# EAGLE library part RPI_MOTOR_SHEILD (library CMPE-460-NXPCUP)
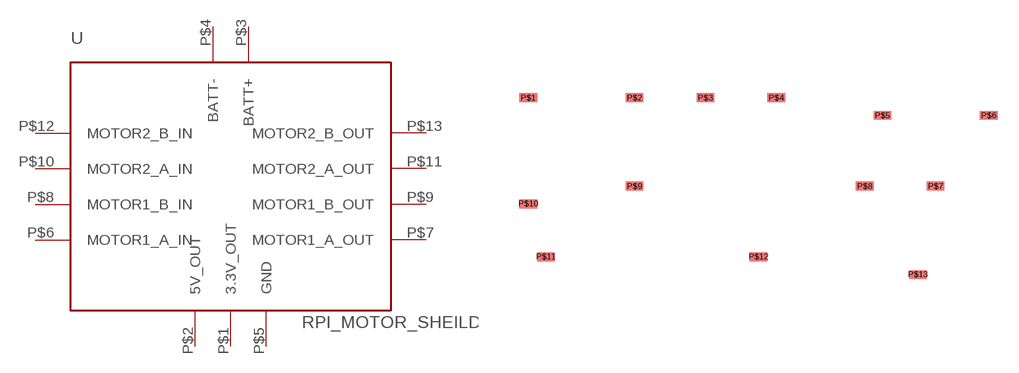
[diagram p2: symbol with the pads of RPI_MOTOR_SHEILD; footprint RPI_MOTOR_SHEILD]

Designator prefix -

## RPI_MOTOR_SHEILD  [RPI_MOTOR_SHEILD]
P$1  3.3V_OUT
P$2  5V_OUT
P$3  BATT+
P$4  BATT-
P$5  GND
P$6  MOTOR1_A_IN
P$7  MOTOR1_A_OUT
P$8  MOTOR1_B_IN
P$9  MOTOR1_B_OUT
P$10  MOTOR2_A_IN
P$11  MOTOR2_A_OUT
P$12  MOTOR2_B_IN
P$13  MOTOR2_B_OUT

## Footprint RPI_MOTOR_SHEILD (pad centres in mm)
smd 1.27 x 0.635: P$1 -16.51,8.89; P$2 -8.89,8.89; P$3 -3.81,8.89; P$4 1.27,8.89; P$5 8.89,7.62; P$6 16.51,7.62; P$7 12.7,2.54; P$8 7.62,2.54; P$9 -8.89,2.54; P$10 -16.51,1.27; P$11 -15.24,-2.54; P$12 0,-2.54; P$13 11.43,-3.81